# Altium schematic symbol library R-781.8-0.5.SchLib: 1 symbol
Pins are listed as number, name and electrical type; pins without a type are passive.

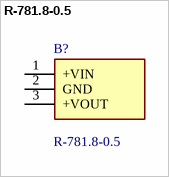
[diagram p0: symbol R-781.8-0.5]

## R-781.8-0.5
designator B?
Recom Through Hole Switching Regulator, 1.8V dc Output Voltage, 4.75  32V dc Input Voltage, 500mA Output Current; Manufacturer_Name: RECOM Power; Geometry.Height: 10.7mm; Mouser Part Number: 919-R-781.8-0.5; Mouser Price/Stock: https://www.mouser.co.uk/ProductDetail/RECOM-Power/R-7818-05?qs=YWgezujkI1JrqyUZzqm94A%3D%3D; Manufacturer_Part_Number: R-781.8-0.5; Datasheet Link: https://recom-power.com/pdf/Innoline/R-78-0.5.pdf
footprint R781805
pins: 1 +VIN, 2 GND, 3 +VOUT